# EAGLE library part ICM_20948 (library maus)
The ICM20948 from Invensense packs 9 Degrees of freedom into a teeny package, making it a one stop shop for all the DOFs you need! Within it’s svelte 3x3mm package there are not just one MEMS sensor die like your common sensors, but two sensor dies!
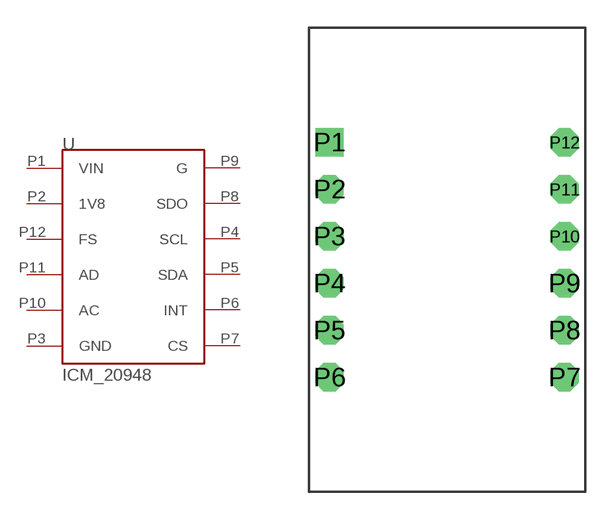
[diagram p2: symbol with the pads of ICM_20948-F; footprint ICM_20948-F]

Designator prefix -

## ICM_20948  [ICM_20948-F]
P1  VIN
P2  1V8
P3  GND
P4  SCL
P5  SDA
P6  INT
P7  CS
P8  SDO
P9  G
P10  AC
P11  AD
P12  FS

## Footprint ICM_20948-F (pad centres in mm)
drill 1.016 square: P1 -6.35,6.35
drill 1.016 octagon: P2 -6.35,3.81; P3 -6.35,1.27; P4 -6.35,-1.27; P5 -6.35,-3.81; P6 -6.35,-6.35; P7 6.35,-6.35; P8 6.35,-3.81; P9 6.35,-1.27; P10 6.35,1.27; P11 6.35,3.81; P12 6.35,6.35